# EAGLE library part S9032-02 (library rgb_sensor)
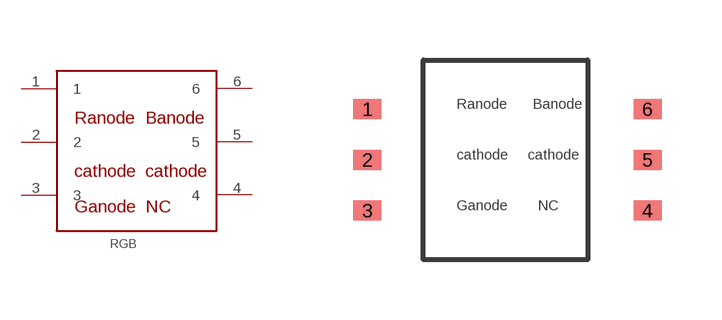
[diagram p0: symbol with the pads of RGB_SENSOR; footprint RGB_SENSOR]

Designator prefix RGB

## S9032-02  [RGB_SENSOR]
1  1
2  2
3  3
4  4
5  5
6  6

## Footprint RGB_SENSOR (pad centres in mm)
smd 0.7 x 0.5: 1 -3.5,1.27; 2 -3.5,0; 3 -3.5,-1.27; 4 3.5,-1.27; 5 3.5,0; 6 3.5,1.27